# EAGLE library part MA10-1 (library componenten aanmaken)
PIN HEADER
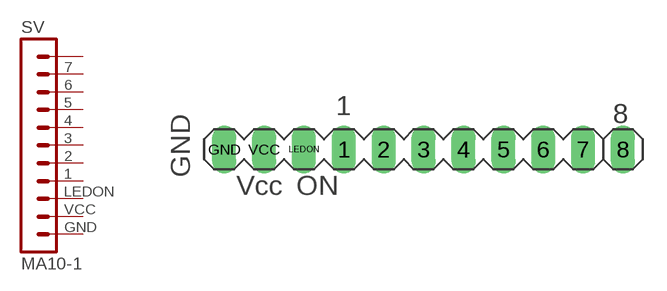
[diagram p16: symbol with the pads of MA10-1; footprint MA10-1]

Designator prefix SV

## MA10-1 (OC_FARNELL: unknown; OC_NEWARK: unknown)  [MA10-1]
1  5  pas
2  4  pas
3  3  pas
4  2  pas
5  1  pas
6  LEDON  pas
7  VCC  pas
GND  8  pas
LEDON  6  pas
VCC  7  pas

## Footprint MA10-1 (pad centres in mm)
PIN HEADER
drill 1.016 long: 1 -3.81,0; 2 -1.27,0; 3 1.27,0; 4 3.81,0; 5 6.35,0; 6 8.89,0; 7 11.43,0; 8 13.97,0; GND -11.43,0; LEDON -6.35,0; VCC -8.89,0